# EAGLE library part BME688 (library pimoroni-ics)
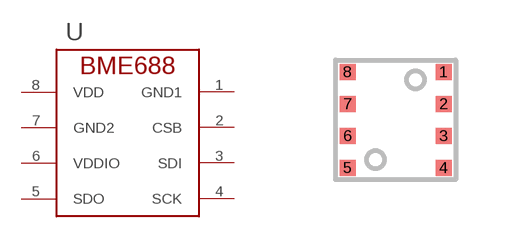
[diagram p55: symbol with the pads of BME688; footprint BME688]

Designator prefix U

## BME688  [BME688]
1  GND1
2  CSB
3  SDI
4  SCK
5  SDO
6  VDDIO
7  GND2
8  VDD

## Footprint BME688 (pad centres in mm)
smd 0.4 x 0.4: 1 1.2,1.2; 2 1.2,0.4; 3 1.2,-0.4; 4 1.2,-1.2; 5 -1.2,-1.2; 6 -1.2,-0.4; 7 -1.2,0.4; 8 -1.2,1.2